# Altium footprint library 692122030100.PcbLib: 1 footprints
Each footprint in its own frame and in the unit in brackets; x right, y up, seen from the top. Pads: shape width x height; smd on the part's side, far side on the other; paste and mask are expansions set on the pad; w line width, h text height; cw(c..) or ccw(c..) is an arc to the next point about the centre after c.
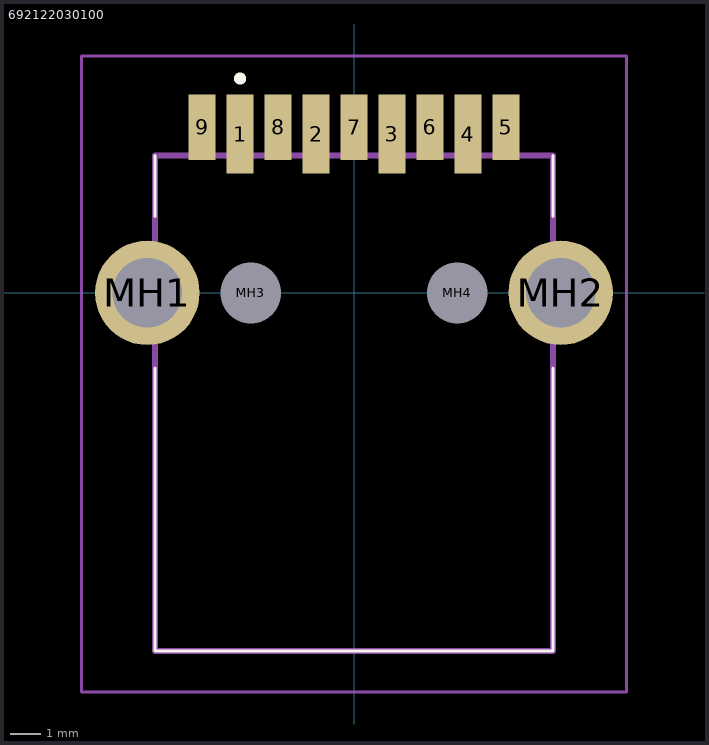
[diagram p0: the footprint, top view; thin cyan lines are the x and y axes]

## 692122030100 [mm]
pads (13):
  rect 0.9x2.6 smd: 1(-3.75,5.22) 2(-1.25,5.22) 3(1.25,5.22) 4(3.75,5.22)
  rect 0.9x2.15 smd: 5(5,5.445) 6(2.5,5.445) 7(0,5.445) 8(-2.5,5.445) 9(-5,5.445)
  round 3.438 hole 2.292: MH1(-6.8,0) MH2(6.8,0)
  round 1 hole 2 unplated: MH3(-3.4,0) MH4(3.4,0)
Top Overlay:
  lines w0.1: -6.55,-2.479 -6.55,-11.78 6.55,-11.78 6.55,-2.479 ; -6.55,2.52 -6.55,4.52 ; 6.55,2.52 6.55,4.52
  lines w0.2: -3.75,6.953 -3.75,6.953 ; -3.75,6.953 ccw(c-3.75,7.053) -3.75,7.153 ; -3.75,6.953 cw(c-3.75,7.053) -3.75,7.153 ; -3.75,7.153 -3.75,7.153
Mechanical 15:
  lines w0.2: -6.55,-11.78 6.55,-11.78 6.55,4.52 -6.55,4.52 -6.55,-11.78
Mechanical 20:
  lines w0.1: -8.969,-13.139 8.969,-13.139 8.969,7.8 -8.969,7.8 -8.969,-13.139
3D body "692122030100.stp": height 5.8, standoff -4.65, extent -10,-3.376 10,3.376